# EAGLE library part HEAD-SMD-RT-87438-0643 (library LITTLEBITS140915)
Molex Pico-SPOX 1.50mm Pitch/87438-0643
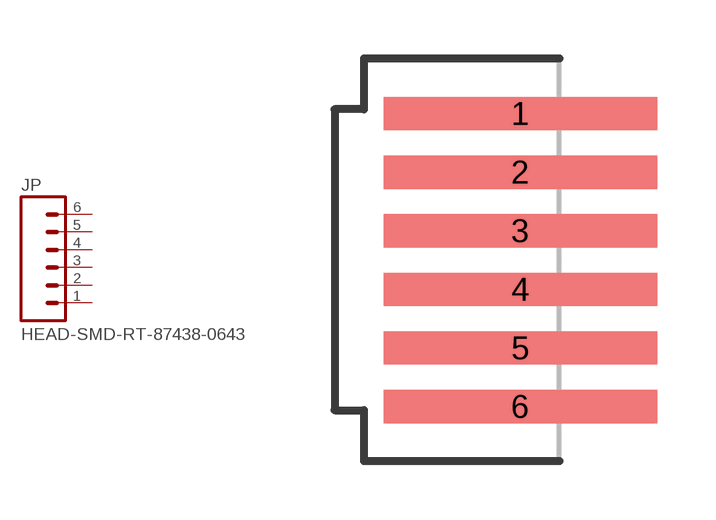
[diagram p0: symbol with the pads of HEAD-SMD-RT-87438-0643; footprint HEAD-SMD-RT-87438-0643]

Designator prefix JP

## HEAD-SMD-RT-87438-0643  [HEAD-SMD-RT-87438-0643]
1  1  pas
2  2  pas
3  3  pas
4  4  pas
5  5  pas
6  6  pas

## Footprint HEAD-SMD-RT-87438-0643 (pad centres in mm)
smd 7 x 0.85: 1 0,3.74; 2 0,2.24; 3 0,0.74; 4 0,-0.76; 5 0,-2.26; 6 0,-3.76